# EAGLE library part AT45DB041E (library kanflo)
AT45DB041E-SSHN-B 4Mbit, 0.150" Wide Body SOIC-8
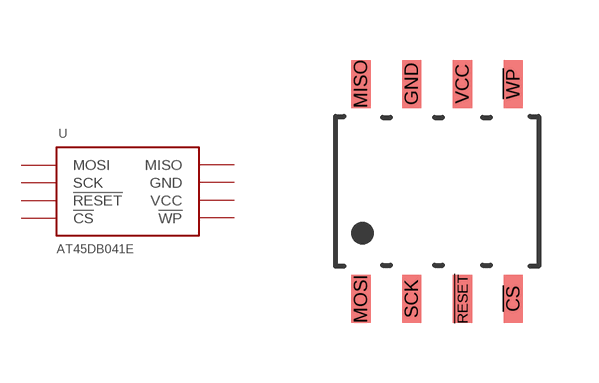
[diagram p24: symbol with the pads of AT45DB041E; footprint AT45DB041E]

Designator prefix U

## AT45DB041E-SOIC8-SSHN  [AT45DB041E]
!CS  !CS  in
!RESET  !RESET  in
!WP  !WP  in
GND  GND  pwr
MISO  MISO  out
MOSI  MOSI  in
SCK  SCK  in
VCC  VCC  pwr

## Footprint AT45DB041E (pad centres in mm)
smd 0.48 x 1.2: !CS 1.27,-2.74; !RESET 0,-2.74; !WP 1.27,2.64; GND -1.27,2.64; MISO -2.54,2.64; MOSI -2.54,-2.74; SCK -1.27,-2.74; VCC 0,2.64